# Altium footprint library Resistors_other.PcbLib: 11 footprints
Each footprint in its own frame and in the unit in brackets; x right, y up, seen from the top. Pads: shape width x height; smd on the part's side, far side on the other; paste and mask are expansions set on the pad; w line width, h text height; cw(c..) or ccw(c..) is an arc to the next point about the centre after c.
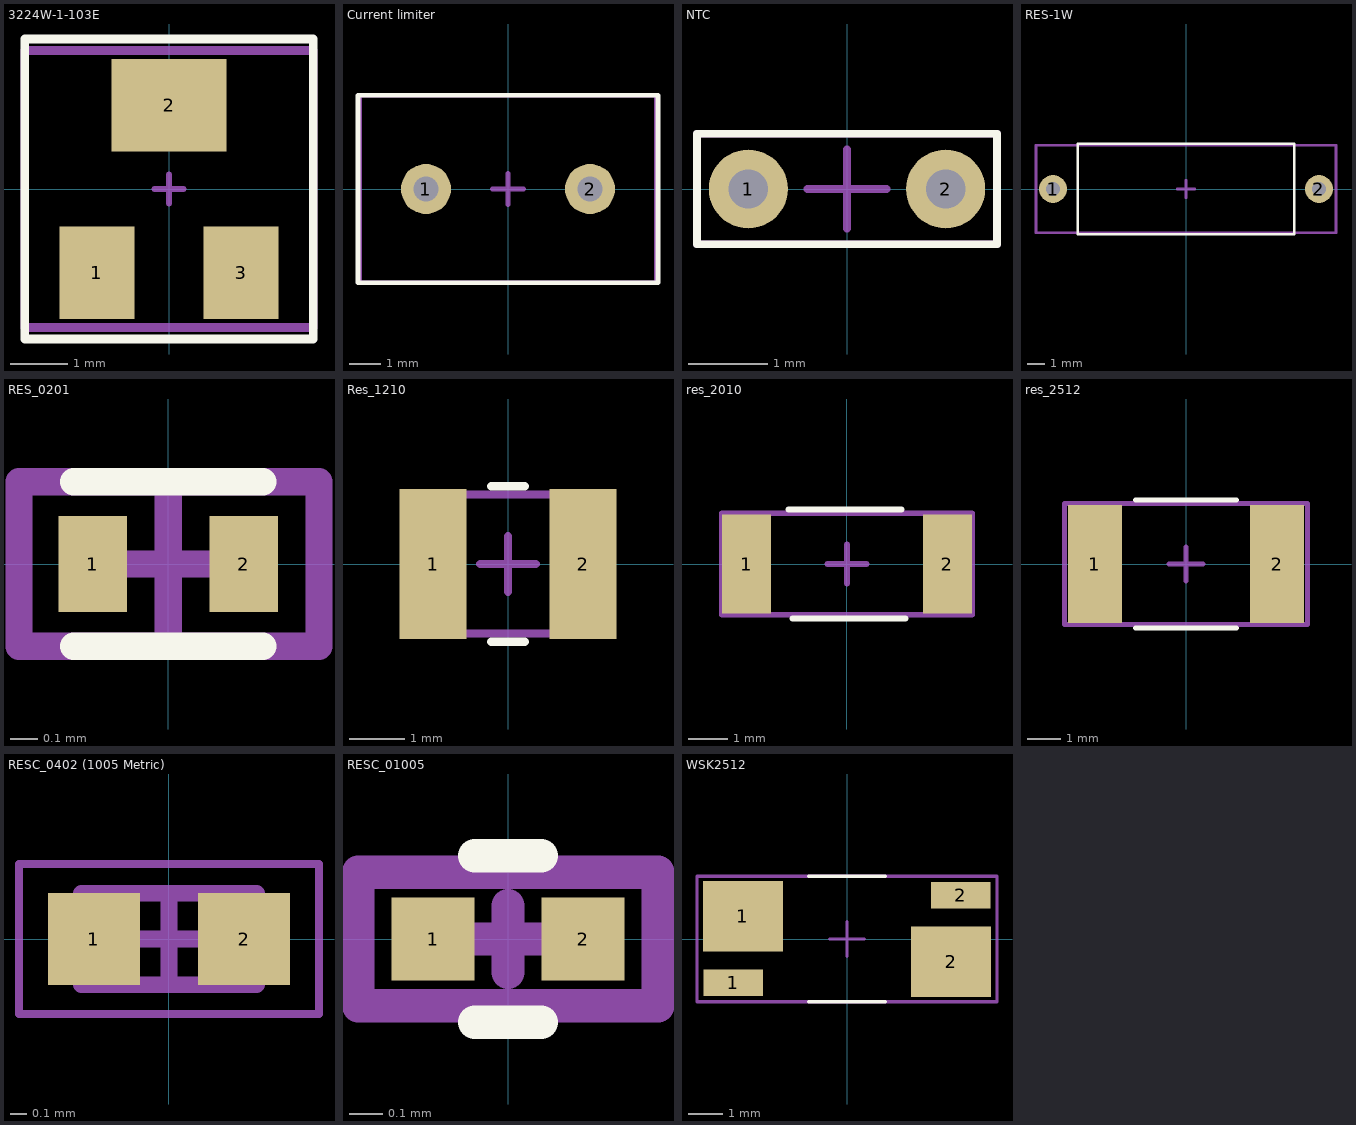
[diagram p0: the footprints below, top view; thin cyan lines are the x and y axes]

## 3224W-1-103E [mm]
height 5.1
pads (3):
  rect 1.3x1.6 smd: 1(-1.25,-1.45) 3(1.25,-1.45)
  rect 2x1.6 smd: 2(0,1.45)
Top Overlay:
  lines w0.15: -2.5,-2.6 2.5,-2.6 2.5,2.6 -2.5,2.6 -2.5,-2.6
Mechanical 13:
  lines w0.1: -0.25,0 0.25,0 ; 0,-0.25 0,0.25
  lines w0.15: -2.5,-2.4 -2.5,2.4 2.5,2.4 2.5,-2.4 -2.5,-2.4
3D body "User Library-3224w-1-501e.step": height 5.29, standoff 0, extent -2.413,-2.038 2.413,1.9

## Current limiter [mm]
height 14.5
pads (2):
  round 1.6 hole 0.8: 1(-2.625,0) 2(2.625,0)
Top Overlay:
  lines w0.15: -4.8,-3 -4.8,3 4.8,3 4.8,-3 -4.8,-3
Mechanical 13:
  lines w0.15: -0.5,0 0.5,0 ; 0,-0.5 0,0.5 ; -4.75,-3 -4.75,3 4.75,3 4.75,-3 -4.75,-3

## NTC [mm]
pads (2):
  round 1 hole 0.5 unplated mask+0.05: 1(-1.25,0) 2(1.25,0)
Top Overlay:
  lines w0.1: -1.9,-0.7 1.9,-0.7 1.9,0.7 -1.9,0.7 -1.9,-0.7
Mechanical 15:
  lines w0.1: -0.5,0 0.5,0 ; 0,-0.5 0,0.5 ; -1.9,-0.7 1.9,-0.7 1.9,0.7 -1.9,0.7 -1.9,-0.7

## RES-1W [mm]
pads (2):
  round 1.6 hole 0.8: 1(-7.625,0) 2(7.625,0)
Top Overlay:
  lines w0.15: -6.2,-2.6 -6.2,2.6 6.2,2.6 6.2,-2.6 -6.2,-2.6
Mechanical 13:
  lines w0.15: -0.5,0 0.5,0 ; 0,-0.5 0,0.5 ; -8.6,-2.5 8.6,-2.5 8.6,2.5 -8.6,2.5 -8.6,-2.5
3D body "User Library-RES-1W.STEP": height 5, standoff -3, extent -7.975,-2.503 7.965,2.497

## RES_0201 [mm]
pads (2):
  rect 0.25x0.35 smd mask+0.03: 1(-0.275,0) 2(0.275,0)
Top Overlay:
  lines w0.1: -0.345,-0.3 0.345,-0.3 ; -0.345,0.3 0.345,0.3
Mechanical 15:
  lines w0.1: -0.3,0 0.3,0 ; 0,-0.3 0,0.3 ; -0.545,-0.3 -0.545,0.3 0.55,0.3 0.55,-0.3 -0.545,-0.3
3D body "User Library-User Library-RES0201.step": height 0.15, standoff 0, extent -0.245,-0.15 0.355,0.15

## Res_1210 [mm]
height 1.8
pads (2):
  rect 1.2x2.7 smd: 1(-1.35,0) 2(1.35,0)
Top Overlay:
  lines w0.15: -0.3,-1.4 0.3,-1.4 ; -0.3,1.4 0.3,1.4
Mechanical 13:
  lines w0.15: -0.5,0 0.5,0 ; 0,-0.5 0,0.5 ; -1.6,-1.25 1.6,-1.25 1.6,1.25 -1.6,1.25 -1.6,-1.25
3D body "User Library-RESC3225X06N.step": height 0.55, standoff 0, extent -1.6,-1.25 1.6,1.25

## res_2010 [mm]
pads (2):
  rect 1.25x2.54 smd: 1(-2.575,0) 2(2.575,0)
Top Overlay:
  lines w0.15: -1.5,1.4 1.4,1.4 ; -1.4,-1.4 1.5,-1.4
Mechanical 13:
  lines w0.15: -0.5,0 0.5,0 ; 0,-0.5 0,0.5 ; -3.2,-1.3 -3.2,1.3 3.2,1.3 3.2,-1.3 -3.2,-1.3
3D body "User Library-CRS2010.step": height 0.56, standoff 0, extent -2.5,-1.25 2.5,1.25

## res_2512 [mm]
pads (2):
  rect 1.6x3.5 smd: 1(-2.7,0) 2(2.7,0)
Top Overlay:
  lines w0.15: -1.5,-1.9 1.5,-1.9 ; -1.5,1.9 1.5,1.9
Mechanical 13:
  lines w0.15: -0.5,0 0.5,0 ; 0,-0.5 0,0.5 ; -3.6,-1.8 3.6,-1.8 3.6,1.8 -3.6,1.8 -3.6,-1.8
3D body "User Library-Resistor SMD 2512.step": height 0.65, standoff 0, extent -3.2,-1.6 3.2,1.6

## RESC_0402 (1005 Metric) [mm]
height 0.4
pads (2):
  rect 0.55x0.55 smd: 1(-0.45,0) 2(0.45,0)
Mechanical 13:
  lines w0.1: -0.525,-0.275 0.525,-0.275 0.525,0.275 -0.525,0.275 -0.525,-0.275
Mechanical 15:
  lines w0.05: -0.9,-0.45 0.9,-0.45 0.9,0.45 -0.9,0.45 -0.9,-0.45
  lines w0.1: -0.275,0 0.275,0 ; 0,-0.275 0,0.275
3D body "RESC1005X04N.step": height 0.4, standoff 0, extent -0.525,-0.275 0.525,0.275

## RESC_01005 [mm]
pads (2):
  rect 0.25x0.25 smd mask+0.05: 1(-0.225,0) 2(0.225,0)
Top Overlay:
  lines w0.1: -0.1,-0.25 0.1,-0.25 ; -0.1,0.25 0.1,0.25
Mechanical 15:
  lines w0.1: -0.1,0 0.1,0 ; 0,-0.1 0,0.1 ; -0.45,-0.2 -0.45,0.2 0.45,0.2 0.45,-0.2 -0.45,-0.2
3D body "User Library-01005_resistor.step": height 0.14, standoff 0, extent -0.2,-0.1 0.2,0.1

## WSK2512 [mm]
pads (4):
  rect 1.7x0.76 smd mask+0.05: 1(-3.263,-1.255) 2(3.263,1.255)
  rect 2.29x2.03 smd mask+0.05: 1(-2.985,0.65) 2(2.985,-0.65)
Top Overlay:
  lines w0.1: -1.1,-1.8 1.1,-1.8 ; -1.1,1.8 1.1,1.8
Mechanical 15:
  lines w0.1: -0.5,0 0.5,0 ; 0,-0.5 0,0.5 ; -4.3,-1.8 -4.3,1.8 4.2,1.8 4.3,1.8 4.3,-1.8 -4.3,-1.8
3D body "WSK2512 (0.005 to 0.2).stp": height 0.64, standoff 0, extent -3.175,-1.59 3.175,1.59